# Altium footprint library SOT23-3_onsemi.PcbLib: 1 footprints
Each footprint in its own frame and in the unit in brackets; x right, y up, seen from the top. Pads: shape width x height; smd on the part's side, far side on the other; paste and mask are expansions set on the pad; w line width, h text height; cw(c..) or ccw(c..) is an arc to the next point about the centre after c.
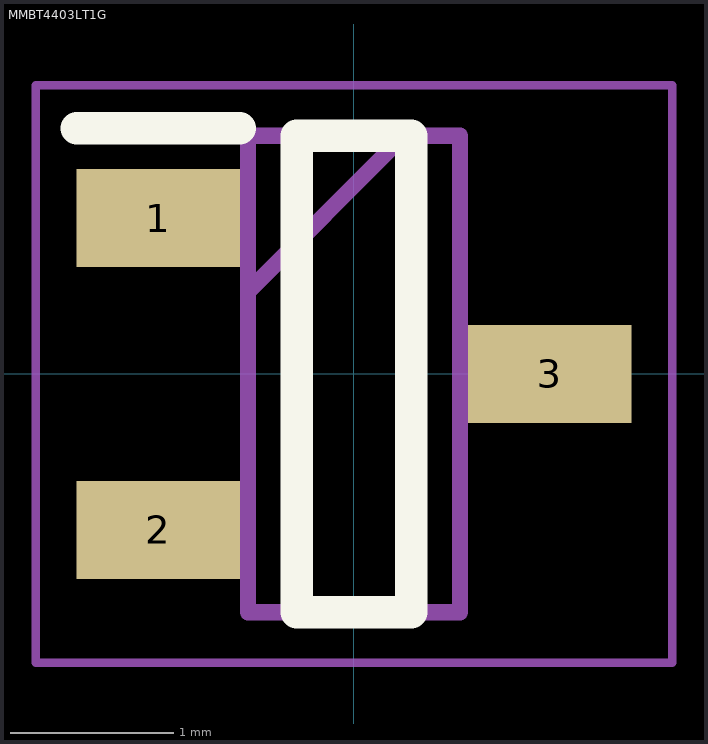
[diagram p0: the footprint, top view; thin cyan lines are the x and y axes]

## MMBT4403LT1G [mm]
pads (3):
  rect 1x0.6 smd: 1(-1.2,0.955) 2(-1.2,-0.955) 3(1.2,0)
Top Overlay:
  lines w0.2: -1.7,1.505 -0.7,1.505 ; -0.35,-1.46 0.35,-1.46 0.35,1.46 -0.35,1.46 -0.35,-1.46
Mechanical 15:
  lines w0.1: -0.65,0.505 0.305,1.46 ; -0.65,-1.46 0.65,-1.46 0.65,1.46 -0.65,1.46 -0.65,-1.46
Top Designator:
  lines w0.05: -1.95,-1.77 -1.95,1.77 1.95,1.77 1.95,-1.77 -1.95,-1.77
3D body "MMBT4403LT3G.stp": height 1.11, standoff 0, extent -1.185,-1.46 1.185,1.46